# Altium footprint library DIODOS.PcbLib: 35 footprints (part 3 of 3)
Each footprint in its own frame and in the unit in brackets; x right, y up, seen from the top. Pads: shape width x height; smd on the part's side, far side on the other; paste and mask are expansions set on the pad; w line width, h text height; cw(c..) or ccw(c..) is an arc to the next point about the centre after c.
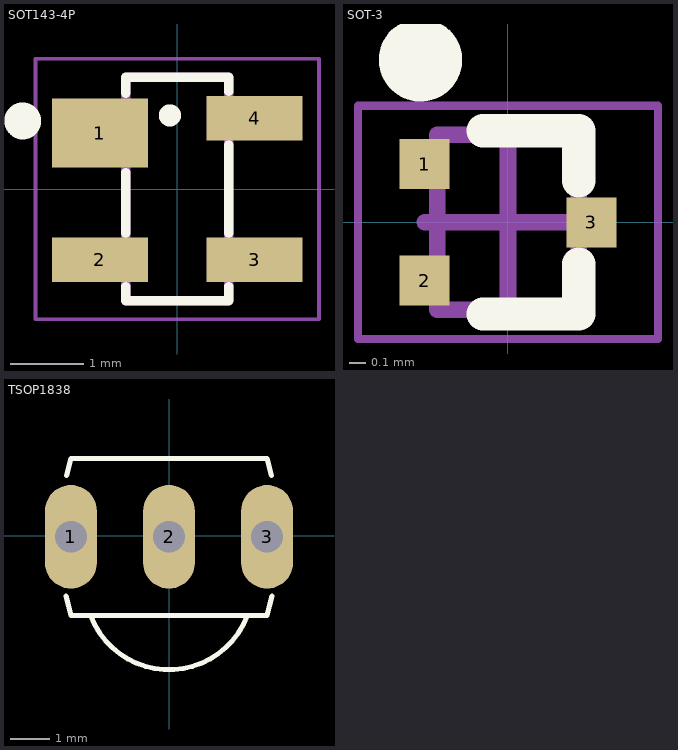
[diagram p2: the footprints below, top view; thin cyan lines are the x and y axes]

## SOT143-4P [mm]
pads (4):
  rect 1.31x0.94 smd: 1(-1.05,0.76)
  rect 1.3x0.6 smd: 2(-1.05,-0.96) 3(1.05,-0.96) 4(1.05,0.96)
Top Overlay:
  circle w0.4: c-2.1,0.925 r0.05
  circle w0.2: c-0.1,1 r0.05
  lines w0.127: -0.7,-1.325 -0.7,-1.52 0.7,-1.52 0.7,-1.325 ; -0.7,-0.6 -0.7,0.225 ; -0.7,1.3 -0.7,1.52 0.7,1.52 0.7,1.325 ; 0.7,-0.6 0.7,0.6
Mechanical 4:
  lines w0.127: -0.7,-1.52 0.7,-1.52 ; -0.7,-1.52 -0.7,1.52 ; -0.7,-1.52 0.7,-1.52 ; -0.7,-1.52 -0.7,1.52 ; -0.7,1.52 0.7,1.52 ; -0.7,1.52 0.7,1.52 ; 0.7,-1.52 0.7,1.52 ; 0.7,-1.52 0.7,1.52
Mechanical 16:
  lines w0.05: -1.925,-1.77 1.925,-1.77 1.925,1.77 -1.925,1.77 -1.925,-1.77
3D body "User Library-SOT143-1.STEP": height 1.22, standoff 0, extent -1.181,-1.45 1.182,1.45

## SOT-3 [mm] "SOT-3, 3-Leads, Body 1,00x1,00mm, Pitch 0,35mm, IPC Medium Density"
height 0.5
pads (3):
  rect 0.3x0.3 smd: 1(-0.5,0.35) 2(-0.5,-0.35) 3(0.5,0)
Top Overlay:
  circle w0.25: c-0.525,0.975 r0.125
  lines w0.2: -0.15,-0.55 0.425,-0.55 0.425,-0.25 ; -0.15,0.55 0.425,0.55 0.425,0.25
Mechanical 13:
  lines w0.1: -0.425,-0.525 0.425,-0.525 0.425,0.525 -0.425,0.525 -0.425,-0.525
Mechanical 15:
  lines w0.05: -0.9,-0.7 0.9,-0.7 0.9,0.7 -0.9,0.7 -0.9,-0.7
  lines w0.1: -0.5,0 0.5,0 ; 0,-0.5 0,0.5
3D body "SOT-3.step": height 0.51, standoff 0.01, extent -0.5,-0.523 0.5,0.523

## TSOP1838 [mil] "IR Remote Receiver 38kHz 35m 3-Pin"
pads (3):
  oval 52x104 hole 32: 1(-98.47,-1.05) 2(-0.05,-1.05) 3(98.38,-1.05)
Top Overlay:
  lines w5: -103.32,-60.38 -98.47,-79.79 -78.79,-79.79 78.69,-79.79 98.38,-79.79 103.23,-60.38 ; -102.84,60.23 -98.47,77.69 98.38,77.69 102.74,60.23 ; -78.56,-80.4 ccw(c-0.05,-50.26) 78.46,-80.4